# EAGLE library part MODULE-LONGAN-NANO (library 2020-08-18 Motor Board)
Longan Nano 485 Allows vertical mounting for the Longan Nano and adds 485 transceiver and 3.5mm audio jacks.
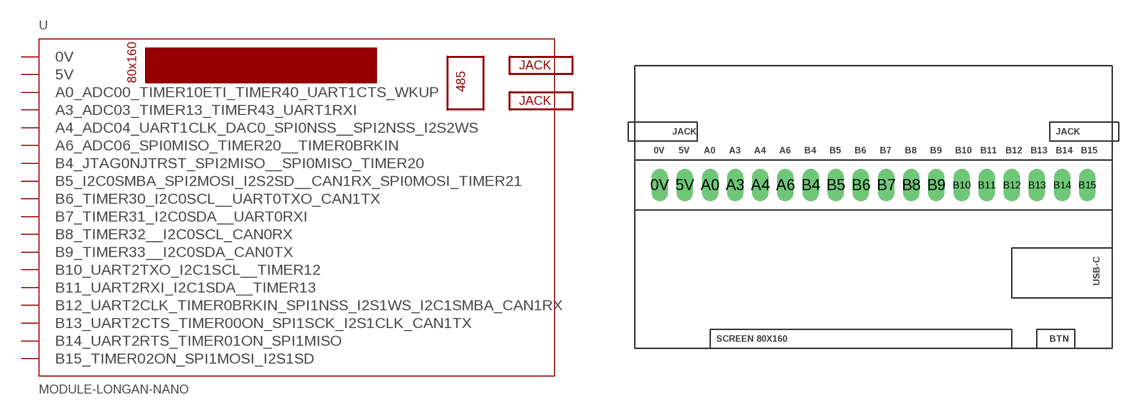
[diagram p7: symbol with the pads of MODULE-LONGAN-NANO; footprint MODULE-LONGAN-NANO]

Designator prefix -

## MODULE-LONGAN-NANO  [MODULE-LONGAN-NANO]
0V  0V  pas
5V  5V  pas
A0  A0_ADC00_TIMER10ETI_TIMER40_UART1CTS_WKUP
A3  A3_ADC03_TIMER13_TIMER43_UART1RXI
A4  A4_ADC04_UART1CLK_DAC0_SPI0NSS__SPI2NSS_I2S2WS
A6  A6_ADC06_SPI0MISO_TIMER20__TIMER0BRKIN
B4  B4_JTAG0NJTRST_SPI2MISO__SPI0MISO_TIMER20
B5  B5_I2C0SMBA_SPI2MOSI_I2S2SD__CAN1RX_SPI0MOSI_TIMER21
B6  B6_TIMER30_I2C0SCL__UART0TXO_CAN1TX
B7  B7_TIMER31_I2C0SDA__UART0RXI
B8  B8_TIMER32__I2C0SCL_CAN0RX
B9  B9_TIMER33__I2C0SDA_CAN0TX
B10  B10_UART2TXO_I2C1SCL__TIMER12
B11  B11_UART2RXI_I2C1SDA__TIMER13
B12  B12_UART2CLK_TIMER0BRKIN_SPI1NSS_I2S1WS_I2C1SMBA_CAN1RX
B13  B13_UART2CTS_TIMER00ON_SPI1SCK_I2S1CLK_CAN1TX
B14  B14_UART2RTS_TIMER01ON_SPI1MISO
B15  B15_TIMER02ON_SPI1MOSI_I2S1SD

## Footprint MODULE-LONGAN-NANO (pad centres in mm)
Longan Nano 485 Allows vertical mounting for the Longan Nano and adds 485 transceiver and 3.5mm audio jacks.
drill 1.1 long: 0V 2.54,2.54; 5V 5.08,2.54; A0 7.62,2.54; A3 10.16,2.54; A4 12.7,2.54; A6 15.24,2.54; B4 17.78,2.54; B5 20.32,2.54; B6 22.86,2.54; B7 25.4,2.54; B8 27.94,2.54; B9 30.48,2.54; B10 33.02,2.54; B11 35.56,2.54; B12 38.1,2.54; B13 40.64,2.54; B14 43.18,2.54; B15 45.72,2.54